# EAGLE library part ARTEMIS.CAST (library LinnesLab-Microcontrollers)
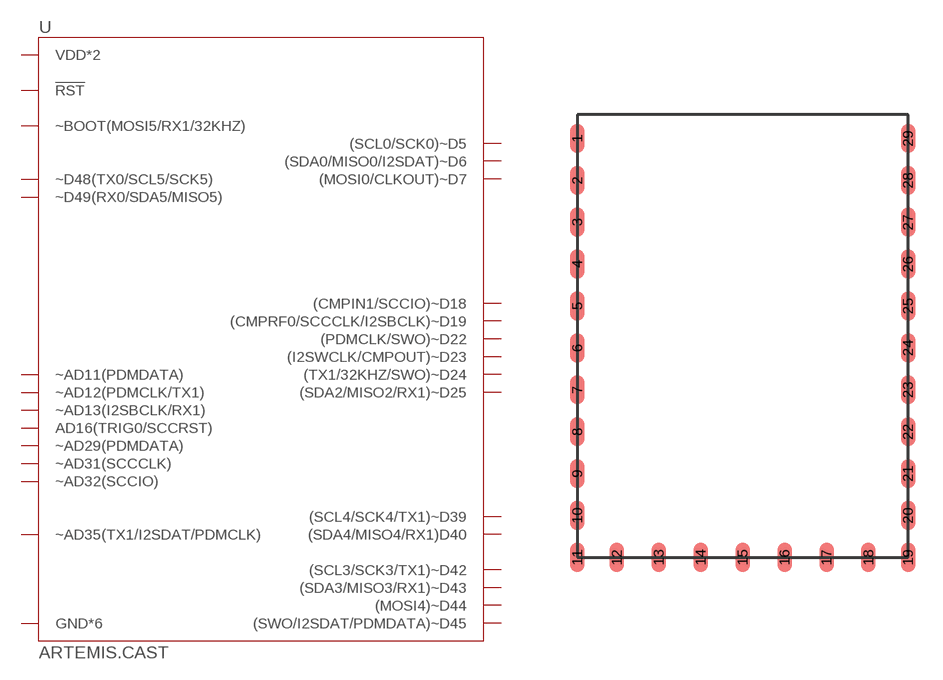
[diagram p15: symbol with the pads of ARTEMIS_CAST; footprint ARTEMIS_CAST]

Designator prefix U

## ARTEMIS.CAST  [ARTEMIS_CAST]
1  ~D49(RX0/SDA5/MISO5)
2  (SCL4/SCK4/TX1)~D39
3  (SDA4/MISO4/RX1)D40
4  ~BOOT(MOSI5/RX1/32KHZ)
5  ~D48(TX0/SCL5/SCK5)
6  (SCL0/SCK0)~D5
7  (MOSI0/CLKOUT)~D7
8  ~AD35(TX1/I2SDAT/PDMCLK)
9  (TX1/32KHZ/SWO)~D24
10  (PDMCLK/SWO)~D22
11  (I2SWCLK/CMPOUT)~D23
12  (SDA0/MISO0/I2SDAT)~D6
13  ~AD32(SCCIO)
14  (SDA2/MISO2/RX1)~D25
15  ~AD12(PDMCLK/TX1)
16  ~AD13(I2SBCLK/RX1)
17  VDD*2
18  ~AD29(PDMDATA)
19  ~AD11(PDMDATA)
20  (CMPRF0/SCCCLK/I2SBCLK)~D19
21  (CMPIN1/SCCIO)~D18
22  AD16(TRIG0/SCCRST)
23  ~AD31(SCCCLK)
24  (SWO/I2SDAT/PDMDATA)~D45
25  !RST
26  (SDA3/MISO3/RX1)~D43
27  (SCL3/SCK3/TX1)~D42
28  (MOSI4)~D44
29  GND*6

## Footprint ARTEMIS_CAST (pad centres in mm)
smd 0.635 x 1.27: 1 0,18.034; 2 0,16.231; 3 0,14.427; 4 0,12.624; 5 0,10.82; 6 0,9.017; 7 0,7.214; 8 0,5.41; 9 0,3.607; 10 0,1.803; 11 0,0; 12 1.702,0; 13 3.505,0; 14 5.309,0; 15 7.112,0; 16 8.915,0; 17 10.719,0; 18 12.522,0; 19 14.224,0; 20 14.224,1.803; 21 14.224,3.607; 22 14.224,5.41; 23 14.224,7.214; 24 14.224,9.017; 25 14.224,10.82; 26 14.224,12.624; 27 14.224,14.427; 28 14.224,16.231; 29 14.224,18.034